# EAGLE library part HCNR200/1 (library hcnr200_201)
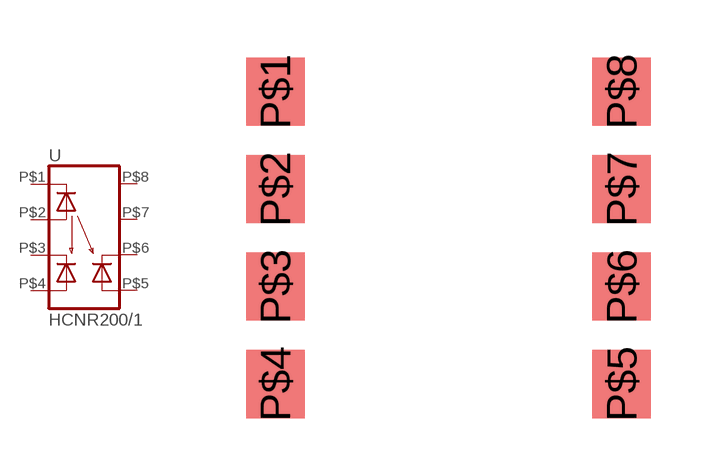
[diagram p0: symbol with the pads of SMT; footprint SMT]

Designator prefix -

## HCNR200/1  [SMT]
P$1  LED_C  pas
P$2  LED_A  pas
P$3  PD1_C  pas
P$4  PD1_A  pas
P$5  PD2_A  pas
P$6  PD2_C  pas
P$7  NC1  nc
P$8  NC2  nc

## Footprint SMT (pad centres in mm)
Small Outline Wide Plastic Gull Wing 300-mil body, package type SO
smd 1.524 x 1.778: P$1 0,7.62; P$2 0,5.08; P$3 0,2.54; P$4 0,0; P$5 9.017,0; P$6 9.017,2.54; P$7 9.017,5.08; P$8 9.017,7.62